# EAGLE library part NRJ6HF (library audio)
Neutrik 1/4" Stereo Phone Connector
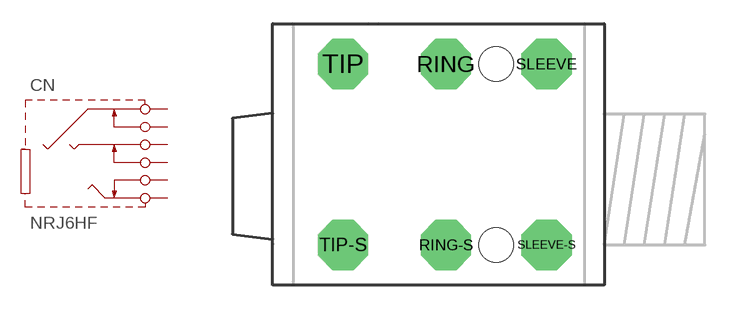
[diagram p0: symbol with the pads of NRJ6HF; footprint NRJ6HF]

Designator prefix CN

## NRJ6HF  [NRJ6HF]
RING  RING  pas
RING-S  RING-S  pas
SLEEVE  SLEEVE  pas
SLEEVE-S  SLEEVE-S  pas
TIP  TIP  pas
TIP-S  TIP-S  pas

## Footprint NRJ6HF (pad centres in mm)
Neutrik 1/4" Stereo Phone Connector
drill 1.676 pad 3.175 octagon: RING 2.055,7.25; RING-S 2.055,-4.18; SLEEVE 8.414,7.25; SLEEVE-S 8.414,-4.18; TIP -4.445,7.25; TIP-S -4.445,-4.18
hole 2.184 at 5.239,7.25
hole 2.184 at 5.239,-4.18